# EAGLE library part 621X1021921 (library Wurth_Elektronik_Electromechanic_Board_to_Board_Connectors_rev16a)
WR-PHD 2.00mm Dual SMT Pin Header, 10 Pins=>Code :WR-PHD_SMD_2,00mm_zweireihig621x1021921(packageing:x = 0: Tube x = 3: Tape & Reel with Cap) <http://katalog.we-online.de/media/images/eican/WR-PHD_SMD_2,00mm_zweireihig62103221921.jpg> 6210xx21921 Details see: http://katalog.we-online.de/en/em/621_0xx_219_21 6213xx21921 Details see: http://katalog.we-online.de/en/em/PHD_2_00_SMT_DUAL_PIN_HEADER_REEL_6213XX21921 2014 (C) Würth Elektronik
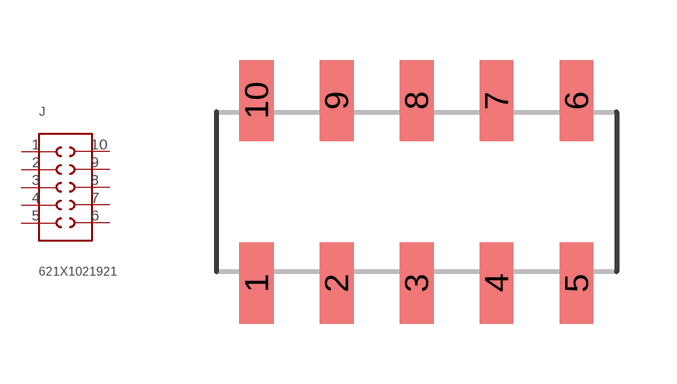
[diagram p244: symbol with the pads of 621X1021921; footprint 621X1021921]

Designator prefix J

## 621X1021921  [621X1021921]
1  1  pas
2  2  pas
3  3  pas
4  4  pas
5  5  pas
6  6  pas
7  7  pas
8  8  pas
9  9  pas
10  10  pas

## Footprint 621X1021921 (pad centres in mm)
WR-PHD 2.00mm Dual SMT Pin Header, 10 Pins
smd 0.85 x 2.03: 1 -8.27,-2.285; 2 -6.27,-2.285; 3 -4.27,-2.285; 4 -2.27,-2.285; 5 -0.27,-2.285; 6 -0.27,2.285; 7 -2.27,2.285; 8 -4.27,2.285; 9 -6.27,2.285; 10 -8.27,2.285